# EAGLE library part STN1110-SOIC28 (library 1zac)
OBD Interpreter by STN
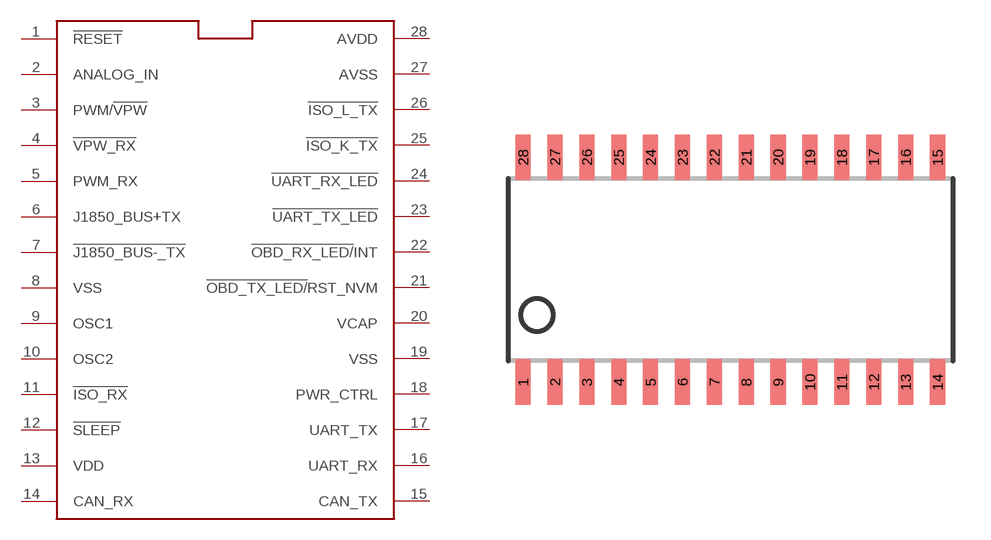
[diagram p17: symbol with the pads of SOIC28L; footprint SOIC28L]

Designator prefix -

## STN1110-SOIC28  [SOIC28L]
1  !RESET
2  ANALOG_IN
3  PWM/!VPW
4  !VPW_RX
5  PWM_RX
6  J1850_BUS+TX
7  !J1850_BUS-_TX
8  VSS
9  OSC1
10  OSC2
11  !ISO_RX
12  !SLEEP
13  VDD
14  CAN_RX
15  CAN_TX
16  UART_RX
17  UART_TX
18  PWR_CTRL
19  VSS
20  VCAP
21  !OBD_TX_LED/!RST_NVM
22  !OBD_RX_LED/!INT
23  !UART_TX_LED
24  !UART_RX_LED
25  !ISO_K_TX
26  !ISO_L_TX
27  AVSS
28  AVDD

## Footprint SOIC28L (pad centres in mm)
SMALL OUTLINE PACKAGE 17.9 x 10.3 Source: http://www.lsicsi.com/pdfs/Drawings/SOIC%20Outline%20Dwgs.pdf
smd 0.6 x 1.8: 1 -8.255,-4.475; 2 -6.985,-4.475; 3 -5.715,-4.475; 4 -4.445,-4.475; 5 -3.175,-4.475; 6 -1.905,-4.475; 7 -0.635,-4.475; 8 0.635,-4.475; 9 1.905,-4.475; 10 3.175,-4.475; 11 4.445,-4.475; 12 5.715,-4.475; 13 6.985,-4.475; 14 8.255,-4.475; 15 8.255,4.475; 16 6.985,4.475; 17 5.715,4.475; 18 4.445,4.475; 19 3.175,4.475; 20 1.905,4.475; 21 0.635,4.475; 22 -0.635,4.475; 23 -1.905,4.475; 24 -3.175,4.475; 25 -4.445,4.475; 26 -5.715,4.475; 27 -6.985,4.475; 28 -8.255,4.475